# EAGLE library part ACSC02 (library Opto)
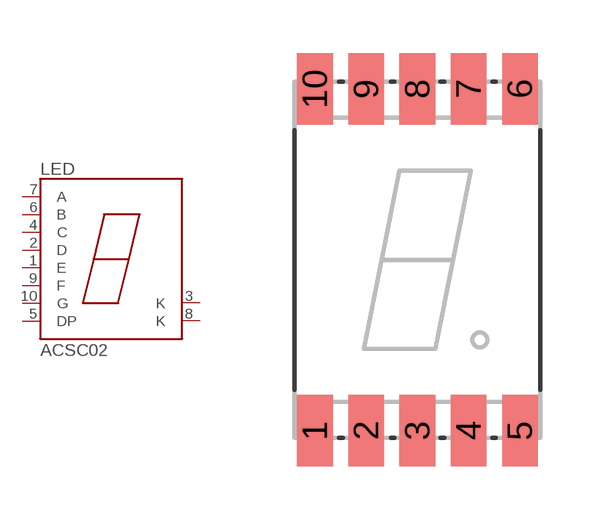
[diagram p0: symbol with the pads of ACSC02; footprint ACSC02]

Designator prefix LED

## ACSC02  [ACSC02]
1  E
2  D
3  K
4  C
5  DP
6  B
7  A
8  K
9  F
10  G

## Footprint ACSC02 (pad centres in mm)
smd 1 x 2: 1 -2.88,-4.8; 2 -1.44,-4.8; 3 0,-4.8; 4 1.44,-4.8; 5 2.88,-4.8; 6 2.88,4.8; 7 1.44,4.8; 8 0,4.8; 9 -1.44,4.8; 10 -2.88,4.8